# EAGLE library part A1335 (library FaBo-Sensor)
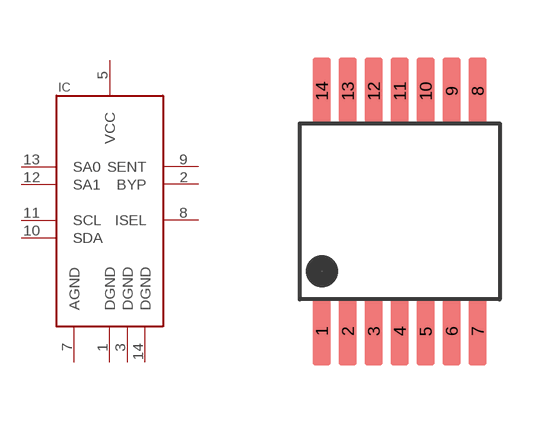
[diagram p16: symbol with the pads of LE-14; footprint LE-14]

Designator prefix IC

## A1335  [LE-14]
1  DGND
2  BYP
3  DGND
5  VCC
7  AGND
8  ISEL
9  SENT
10  SDA
11  SCL
12  SA1
13  SA0
14  DGND

## Footprint LE-14 (pad centres in mm)
smd 0.45 x 1.7: 1 -1.95,-3; 2 -1.3,-3; 3 -0.65,-3; 4 0,-3; 5 0.65,-3; 6 1.3,-3; 7 1.95,-3; 8 1.95,3; 9 1.3,3; 10 0.65,3; 11 0,3; 12 -0.65,3; 13 -1.3,3; 14 -1.95,3